# Altium schematic symbol library FT232RL-REEL.SchLib: 1 symbol
Pins are listed as number, name and electrical type; pins without a type are passive.

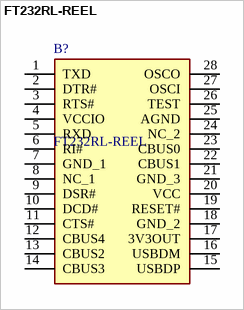
[diagram p0: symbol FT232RL-REEL]

## FT232RL-REEL
designator B?
USB/Serial IC UART SSOP-28 FTDI Chip FT232RL-REEL, USB Controller, 3MBd, USB 2.0, 1.8  5.25 V, 28-Pin SSOP; Geometry.Height: 2mm; Manufacturer_Name: FTDI Chip; Manufacturer_Part_Number: FT232RL-REEL; Mouser Part Number: 895-FT232RL; Mouser Price/Stock: https://www.mouser.co.uk/ProductDetail/FTDI/FT232RL-REEL?qs=D1%2FPMqvA103RC6OU6bKtoA%3D%3D; Arrow Part Number: FT232RL-REEL; Arrow Price/Stock: https://www.arrow.com/en/products/ft232rl-reel/ftdi-chip?region=nac; Datasheet Link: http://www.ftdichip.com/Support/Documents/DataSheets/ICs/DS_FT232R.pdf
footprint SOP65P778X200-28N
pins: 1 TXD, 2 DTR#, 3 RTS#, 4 VCCIO, 5 RXD, 6 RI#, 7 GND_1, 8 NC_1, 9 DSR#, 10 DCD#, 11 CTS#, 12 CBUS4, 13 CBUS2, 14 CBUS3, 15 USBDP, 16 USBDM, 17 3V3OUT, 18 GND_2, 19 RESET#, 20 VCC, 21 GND_3, 22 CBUS1, 23 CBUS0, 24 NC_2, 25 AGND, 26 TEST, 27 OSCI, 28 OSCO